# EAGLE library part Z566M (library Nixie-566M)
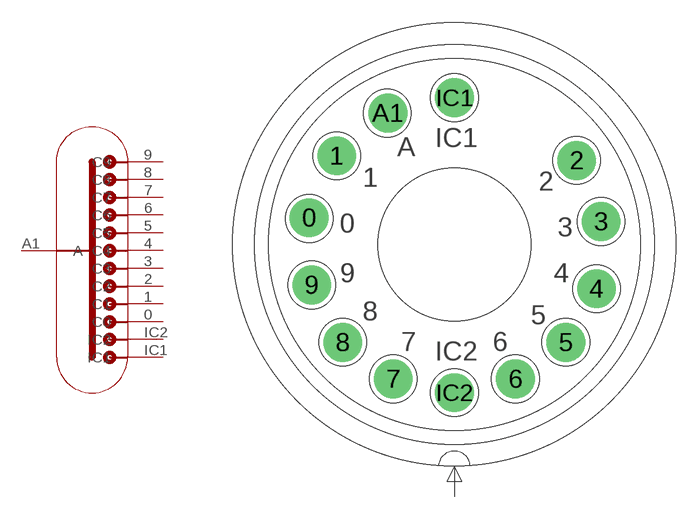
[diagram p0: symbol with the pads of B13B-1; footprint B13B-1]

Designator prefix L

## Z566M  [B13B-1]
0  C0
1  C1
2  C2
3  C3
4  C4
5  C5
6  C6
7  C7
8  C8
9  C9
A1  A
IC1  IC1
IC2  IC2

## Footprint B13B-1 (pad centres in mm)
drill 0.813 pad 2.54 round: 0 -9.5,1.75; 1 -7.7,5.8; 2 8,5.5; 3 9.6,1.5; 4 9.3,-2.9; 5 7.3,-6.4; 6 4,-8.8; 7 -4,-8.8; 8 -7.3,-6.4; 9 -9.327,-2.646; A1 -4.35,8.6; IC1 0,9.6; IC2 0,-9.7